# EAGLE library part DM9314 (library dec-con)
DM9314 Quad Latch
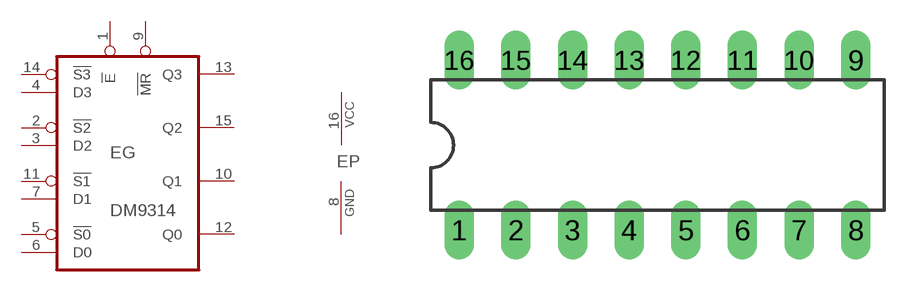
[diagram p58: symbol with the pads of DIL16; footprint DIL16]

Designator prefix E; gates G=9314 P=PWRN

## DM9314  [DIL16]
1  G:!E  in
2  G:!S2  in
3  G:D2  in
4  G:D3  in
5  G:!S0  in
6  G:D0  in
7  G:D1  in
8  P:GND  pwr
9  G:!MR  in
10  G:Q1  out
11  G:!S1  in
12  G:Q0  out
13  G:Q3  out
14  G:!S3  in
15  G:Q2  out
16  P:VCC  pwr

## Footprint DIL16 (pad centres in mm)
Dual In Line Package
drill 0.813 long: 1 -8.89,-3.81; 2 -6.35,-3.81; 3 -3.81,-3.81; 4 -1.27,-3.81; 5 1.27,-3.81; 6 3.81,-3.81; 7 6.35,-3.81; 8 8.89,-3.81; 9 8.89,3.81; 10 6.35,3.81; 11 3.81,3.81; 12 1.27,3.81; 13 -1.27,3.81; 14 -3.81,3.81; 15 -6.35,3.81; 16 -8.89,3.81